# EAGLE library part HUZZAH_ESP8266 (library huzzah_esp8266)
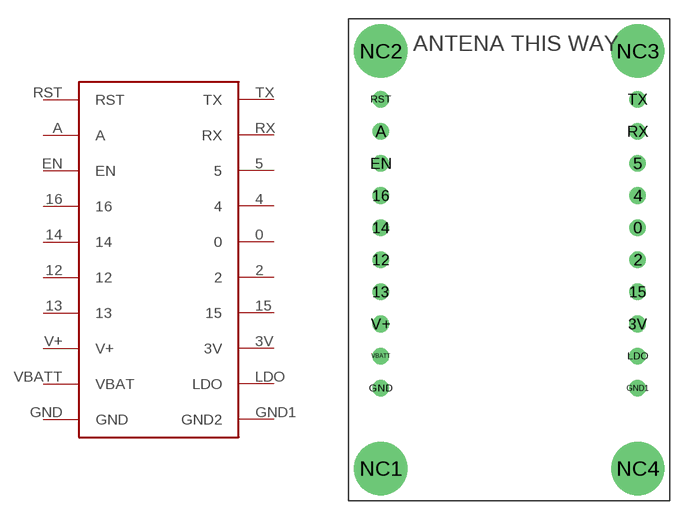
[diagram p0: symbol with the pads of HUZZAH_ESP8266; footprint HUZZAH_ESP8266]

Designator prefix -

## HUZZAH_ESP8266  [HUZZAH_ESP8266]
0  0
2  2
3V  3V
4  4
5  5
12  12
13  13
14  14
15  15
16  16
A  A
EN  EN
GND  GND
GND1  GND2
LDO  LDO
RST  RST
RX  RX
TX  TX
V+  V+
VBATT  VBAT

## Footprint HUZZAH_ESP8266 (pad centres in mm)
drill 0.8 pad 1.27: 0 22.86,21.59; 2 22.86,19.05; 3V 22.86,13.97; 4 22.86,24.13; 5 22.86,26.67; 12 2.54,19.05; 13 2.54,16.51; 14 2.54,21.59; 15 22.86,16.51; 16 2.54,24.13; A 2.54,29.21; EN 2.54,26.67; GND 2.54,8.89; GND1 22.86,8.89; LDO 22.86,11.43; RST 2.54,31.75; RX 22.86,29.21; TX 22.86,31.75; V+ 2.54,13.97; VBATT 2.54,11.43
drill 3.2 pad 3.81: NC1 2.54,2.54; NC2 2.54,35.56; NC3 22.86,35.56; NC4 22.86,2.54